# EAGLE library part V__VFD_15-MT-37GK (library ++Bedrahtet)
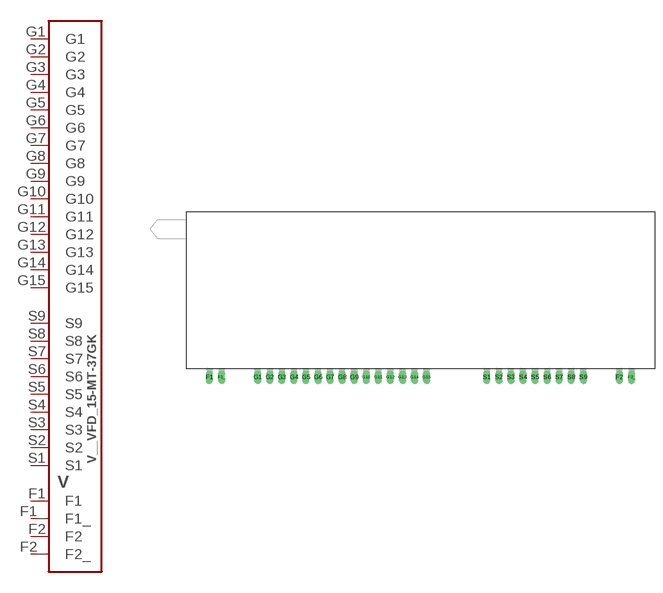
[diagram p60: symbol with the pads of VFD_15-MT-37GK; footprint VFD_15-MT-37GK]

Designator prefix V

## V__VFD_15-MT-37GK  [VFD_15-MT-37GK]
F1  F1
F1_  F1_
F2  F2
F2_  F2_
G1  G1
G2  G2
G3  G3
G4  G4
G5  G5
G6  G6
G7  G7
G8  G8
G9  G9
G10  G10
G11  G11
G12  G12
G13  G13
G14  G14
G15  G15
S1  S1
S2  S2
S3  S3
S4  S4
S5  S5
S6  S6
S7  S7
S8  S8
S9  S9

## Footprint VFD_15-MT-37GK (pad centres in mm)
drill 1 long: F1 0,0; F1_ 2.54,0; F2 86.36,0; F2_ 88.9,0; G1 10.16,0; G2 12.7,0; G3 15.24,0; G4 17.78,0; G5 20.32,0; G6 22.86,0; G7 25.4,0; G8 27.94,0; G9 30.48,0; G10 33.02,0; G11 35.56,0; G12 38.1,0; G13 40.64,0; G14 43.18,0; G15 45.72,0; S1 58.42,0; S2 60.96,0; S3 63.5,0; S4 66.04,0; S5 68.58,0; S6 71.12,0; S7 73.66,0; S8 76.2,0; S9 78.74,0